# EAGLE library part GEVCU_EXT (library collin)
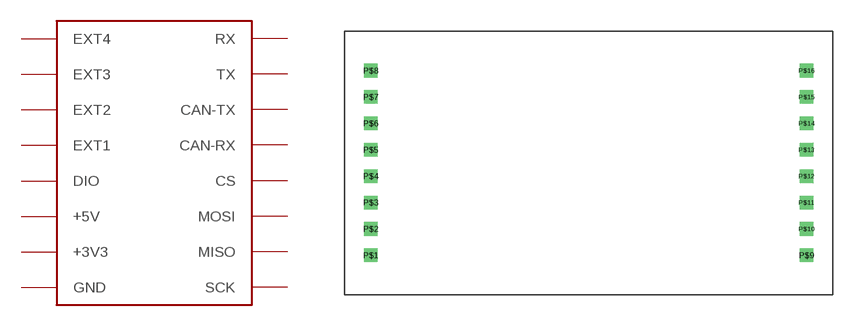
[diagram p16: symbol with the pads of GEVCU_ADDON; footprint GEVCU_ADDON]

Designator prefix -

## GEVCU_EXT  [GEVCU_ADDON]
P$1  GND
P$2  +3V3
P$3  +5V
P$4  DIO
P$5  EXT1
P$6  EXT2
P$7  EXT3
P$8  EXT4
P$9  SCK
P$10  MISO
P$11  MOSI
P$12  CS
P$13  CAN-RX
P$14  CAN-TX
P$15  TX
P$16  RX

## Footprint GEVCU_ADDON (pad centres in mm)
drill 0.8 square: P$1 2.54,3.81; P$2 2.54,6.35; P$3 2.54,8.89; P$4 2.54,11.43; P$5 2.54,13.97; P$6 2.54,16.51; P$7 2.54,19.05; P$8 2.54,21.59; P$9 44.45,3.81; P$10 44.45,6.35; P$11 44.45,8.89; P$12 44.45,11.43; P$13 44.45,13.97; P$14 44.45,16.51; P$15 44.45,19.05; P$16 44.45,21.59